# EAGLE library part ADS1256 (library MSSRP-Lib)
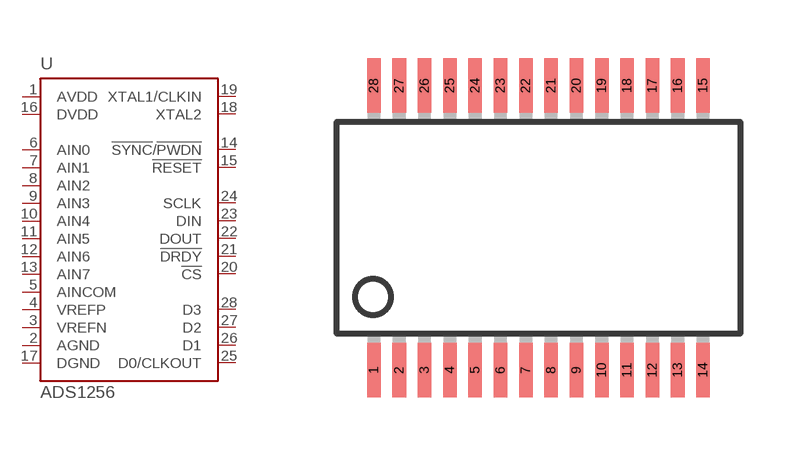
[diagram p2: symbol with the pads of SSOP28; footprint SSOP28]

Designator prefix -

## ADS1256IDBR  [SSOP28]
1  AVDD  pwr
2  AGND  pwr
3  VREFN  pas
4  VREFP  pas
5  AINCOM  in
6  AIN0  in
7  AIN1  in
8  AIN2  in
9  AIN3  in
10  AIN4  in
11  AIN5  in
12  AIN6  in
13  AIN7  in
14  !SYNC!/!PWDN  in
15  !RESET  in
16  DVDD  pwr
17  DGND  pwr
18  XTAL2  in
19  XTAL1/CLKIN  in
20  !CS  in
21  !DRDY  out
22  DOUT  out
23  DIN
24  SCLK
25  D0/CLKOUT
26  D1
27  D2
28  D3

## Footprint SSOP28 (pad centres in mm)
smd 0.348 x 1.397: 1 -4.225,-3.656; 2 -3.575,-3.656; 3 -2.925,-3.656; 4 -2.275,-3.656; 5 -1.625,-3.656; 6 -0.975,-3.656; 7 -0.325,-3.656; 8 0.325,-3.656; 9 0.975,-3.656; 10 1.625,-3.656; 11 2.275,-3.656; 12 2.925,-3.656; 13 3.575,-3.656; 14 4.225,-3.656; 15 4.225,3.656; 16 3.575,3.656; 17 2.925,3.656; 18 2.275,3.656; 19 1.625,3.656; 20 0.975,3.656; 21 0.325,3.656; 22 -0.325,3.656; 23 -0.975,3.656; 24 -1.625,3.656; 25 -2.275,3.656; 26 -2.925,3.656; 27 -3.575,3.656; 28 -4.225,3.656